# Altium footprint library ZTK7628P_convert_board_v1.0.0.PcbLib: 3 footprints
Each footprint in its own frame and in the unit in brackets; x right, y up, seen from the top. Pads: shape width x height; smd on the part's side, far side on the other; paste and mask are expansions set on the pad; w line width, h text height; cw(c..) or ccw(c..) is an arc to the next point about the centre after c.
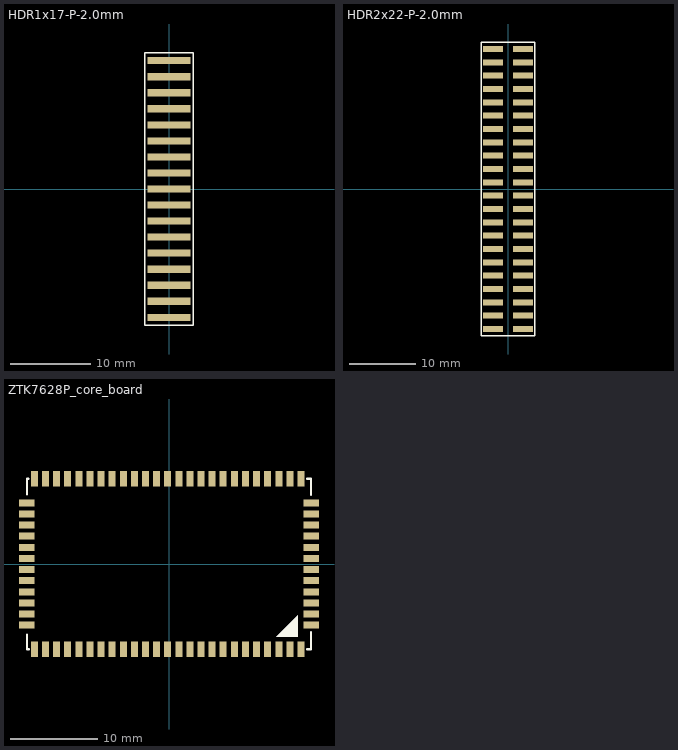
[diagram p0: the footprints below, top view; thin cyan lines are the x and y axes]

## HDR1x17-P-2.0mm [mm]
pads (17):
  rect 5.4x0.89 smd: 1(0,-16) 2(0,-14) 3(0,-12) 4(0,-10) 5(0,-8) 6(0,-6) 7(0,-4) 8(0,-2) 9(0,0) 10(0,2) 11(0,4) 12(0,6) 13(0,8) 14(0,10) 15(0,12) 16(0,14) 17(0,16)
Top Overlay:
  lines w0.2: -3,-17 -3,17 3,17 3,-17 -3,-17
3D body: height 5.5, standoff 0, extent -1,-17 1,17

## HDR2x22-P-2.0mm [mm]
pads (44):
  rect 3x0.89 smd: 1(-2.25,-21) 2(2.25,-21) 3(-2.25,-19) 4(2.25,-19) 5(-2.25,-17) 6(2.25,-17) 7(-2.25,-15) 8(2.25,-15) 9(-2.25,-13) 10(2.25,-13) 11(-2.25,-11) 12(2.25,-11) 13(-2.25,-9) 14(2.25,-9) 15(-2.25,-7) 16(2.25,-7) 17(-2.25,-5) 18(2.25,-5) 19(-2.25,-3) 20(2.25,-3) 21(-2.25,-1) 22(2.25,-1) 23(-2.25,1) 24(2.25,1) 25(-2.25,3) 26(2.25,3) 27(-2.25,5) 28(2.25,5) 29(-2.25,7) 30(2.25,7) 31(-2.25,9) 32(2.25,9) 33(-2.25,11) 34(2.25,11) 35(-2.25,13) 36(2.25,13) 37(-2.25,15) 38(2.25,15) 39(-2.25,17) 40(2.25,17) 41(-2.25,19) 42(2.25,19) 43(-2.25,21) 44(2.25,21)
Top Overlay:
  lines w0.2: -4,-22 4,-22 4,22 -4,22 -4,-22
3D body: height 5.5, standoff 0, extent -2,-22 2,22

## ZTK7628P_core_board [mm]
pads (74):
  rect 1.8x0.8 smd: 1(16.25,-6.985) 2(16.25,-5.715) 3(16.25,-4.445) 4(16.25,-3.175) 5(16.25,-1.905) 6(16.25,-0.635) 7(16.25,0.635) 8(16.25,1.905) 9(16.25,3.175) 10(16.25,4.445) 11(16.25,5.715) 12(16.25,6.985) 38(-16.25,6.985) 39(-16.25,5.715) 40(-16.25,4.445) 41(-16.25,3.175) 42(-16.25,1.905) 43(-16.25,0.635) 44(-16.25,-0.635) 45(-16.25,-1.905) 46(-16.25,-3.175) 47(-16.25,-4.445) 48(-16.25,-5.715) 49(-16.25,-6.985)
  rect 0.8x1.8 smd: 13(15.09,9.75) 14(13.82,9.75) 15(12.55,9.75) 16(11.28,9.75) 17(10.01,9.75) 18(8.74,9.75) 19(7.47,9.75) 20(6.2,9.75) 21(4.93,9.75) 22(3.66,9.75) 23(2.39,9.75) 24(1.12,9.75) 25(-0.15,9.75) 26(-1.42,9.75) 27(-2.69,9.75) 28(-3.96,9.75) 29(-5.23,9.75) 30(-6.5,9.75) 31(-7.77,9.75) 32(-9.04,9.75) 33(-10.31,9.75) 34(-11.58,9.75) 35(-12.85,9.75) 36(-14.12,9.75) 37(-15.39,9.75) 50(-15.39,-9.75) 51(-14.12,-9.75) 52(-12.85,-9.75) 53(-11.58,-9.75) 54(-10.31,-9.75) 55(-9.04,-9.75) 56(-7.77,-9.75) 57(-6.5,-9.75) 58(-5.23,-9.75) 59(-3.96,-9.75) 60(-2.69,-9.75) 61(-1.42,-9.75) 62(-0.15,-9.75) 63(1.12,-9.75) 64(2.39,-9.75) 65(3.66,-9.75) 66(4.93,-9.75) 67(6.2,-9.75) 68(7.47,-9.75) 69(8.74,-9.75) 70(10.01,-9.75) 71(11.28,-9.75) 72(12.55,-9.75) 73(13.82,-9.75) 74(15.09,-9.75)
Top Overlay:
  region: 12.29,-8.315 14.71,-8.315 14.71,-5.855
  lines w0.254: -16.25,-8.045 -16.25,-9.75 -16.045,-9.75 ; -16.25,7.975 -16.25,9.75 -16.075,9.75 ; 15.785,-9.75 16.25,-9.75 16.25,-7.775 ; 15.785,9.75 16.25,9.75 16.25,7.925
3D body: height 2.5, standoff 0, extent -16.25,-9.75 16.25,9.75